# EAGLE library part LTC3602 (library PowerProducts)
2.5A, 10V, Monolithic Synchronous Step-Down Regulator
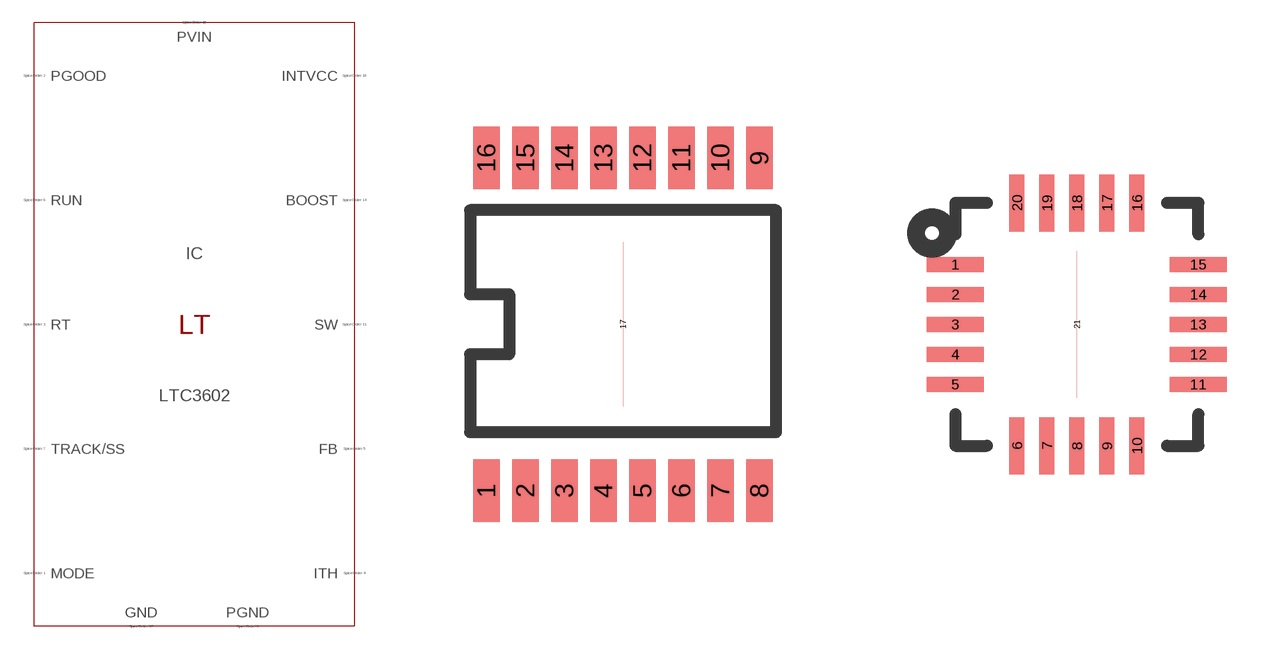
[diagram p257: symbol with the pads of TSSOP16BA(FE); footprints TSSOP16BA(FE), QFN20(UF)]

Designator prefix IC

## LTC3602 (SPICEMODEL: LTC3602.sub; SPICEPREFIX: X; VALUE2: LTC3602)  [TSSOP16BA(FE)]
1  MODE  pas
2  PGOOD  pas
3  RT  pas
4  ITH  pas
5  FB  pas
6  RUN  pas
7  TRACK/SS  pas
8  PGND  pas
9  PGND  pas
10  PGND  pas
11  SW  pas
12  SW  pas
13  SW  pas
14  BOOST  pas
15  PVIN  pas
16  INTVCC  pas
17  GND  pas

## LTC3602UF (SPICEMODEL: LTC3602.sub; SPICEPREFIX: X; VALUE2: LTC3602)  [QFN20(UF)]
1  PVIN  pas
2  PVIN  pas
3  INTVCC  pas
4  MODE  pas
5  PGOOD  pas
6  RT  pas
7  ITH  pas
8  FB  pas
9  GND  pas
10  RUN  pas
11  TRACK/SS  pas
12  PGND  pas
13  PGND  pas
14  PGND  pas
15  PGND  pas
16  SW  pas
17  SW  pas
18  SW  pas
19  SW  pas
20  BOOST  pas
21  GND  pas

## Footprint TSSOP16BA(FE) (pad centres in mm)
Package generated from: TSSOP16BA(FE).asc (!PADS-POWERPCB-V5.0-BASIC! DESIGN DATABASE ASCII FILE 1.0) with :import-pads-powerpcb-v5.ulp Version 1.0.1 at 04.10.2012 14:11:39
smd 0.66 x 1.575: 1 -3.413,-4.162; 2 -2.438,-4.162; 3 -1.462,-4.162; 4 -0.487,-4.162; 5 0.487,-4.162; 6 1.462,-4.162; 7 2.438,-4.162; 8 3.413,-4.162; 9 3.413,4.162; 10 2.438,4.162; 11 1.462,4.162; 12 0.487,4.162; 13 -0.487,4.162; 14 -1.462,4.162; 15 -2.438,4.162; 16 -3.413,4.162
smd 0 x 4.11: 17 0,0

## Footprint QFN20(UF) (pad centres in mm)
Package generated from: QFN20(UF).asc (!PADS-POWERPCB-V9.3-BASIC! DESIGN DATABASE ASCII FILE 1.0) with :import-pads-powerpcb-v5.ulp Version 1.0.1 at 04.10.2012 14:11:23
smd 1.425 x 0.375: 1 -3.038,1.5; 2 -3.038,0.75; 3 -3.038,0; 4 -3.038,-0.75; 5 -3.038,-1.5; 11 3.038,-1.5; 12 3.038,-0.75; 13 3.038,0; 14 3.038,0.75; 15 3.038,1.5
smd 0.375 x 1.425: 6 -1.5,-3.038; 7 -0.75,-3.038; 8 0,-3.038; 9 0.75,-3.038; 10 1.5,-3.038; 16 1.5,3.038; 17 0.75,3.038; 18 0,3.038; 19 -0.75,3.038; 20 -1.5,3.038
smd 0 x 3.675: 21 0,0